# Altium footprint library CAPC3216X178N.PcbLib: 1 footprints
Each footprint in its own frame and in the unit in brackets; x right, y up, seen from the top. Pads: shape width x height; smd on the part's side, far side on the other; paste and mask are expansions set on the pad; w line width, h text height; cw(c..) or ccw(c..) is an arc to the next point about the centre after c.
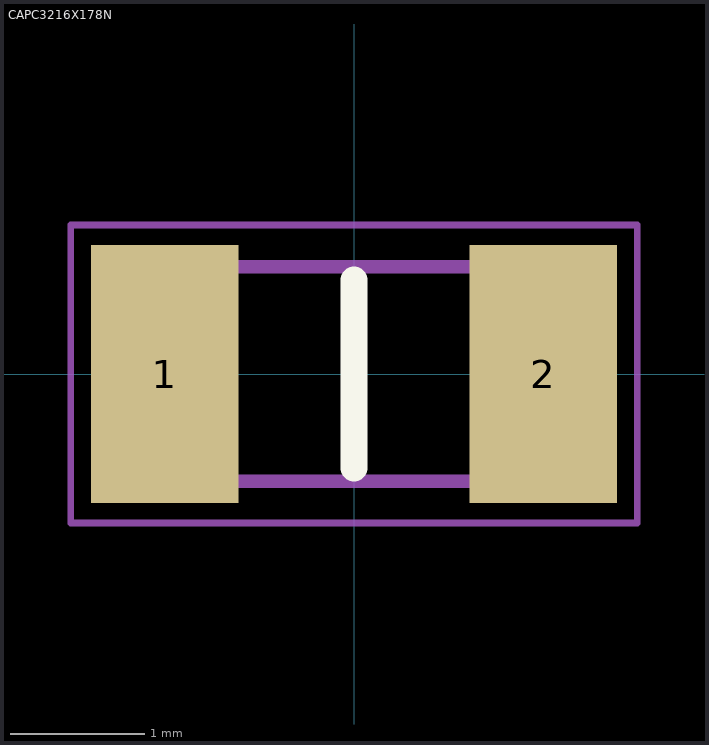
[diagram p0: the footprint, top view; thin cyan lines are the x and y axes]

## CAPC3216X178N [mm]
pads (2):
  rect 1.1x1.92 smd: 1(-1.41,0) 2(1.41,0)
Top Overlay:
  lines w0.2: 0,-0.7 0,0.7
Mechanical 15:
  lines w0.1: -1.6,-0.8 -1.6,0.8 1.6,0.8 1.6,-0.8 -1.6,-0.8
Mechanical 20:
  lines w0.05: -2.11,-1.11 -2.11,1.11 2.11,1.11 2.11,-1.11 -2.11,-1.11
3D body "12062C104JAT2A.stp": height 1.78, standoff 0, extent -1.6,-0.8 1.6,0.8